# EAGLE library part DERFMEGA256-23T02 (library deRFmodules)
deRFmega256 IEEE 802.15.4 Low Power Wireless Radio Module Microcontroller: Atmel ATmega256RFR2 Transceiver: integrated Manufacturer: dresden elektronik ingenieurtechnik gmbh Website: http://www.dresden-elektronik.de
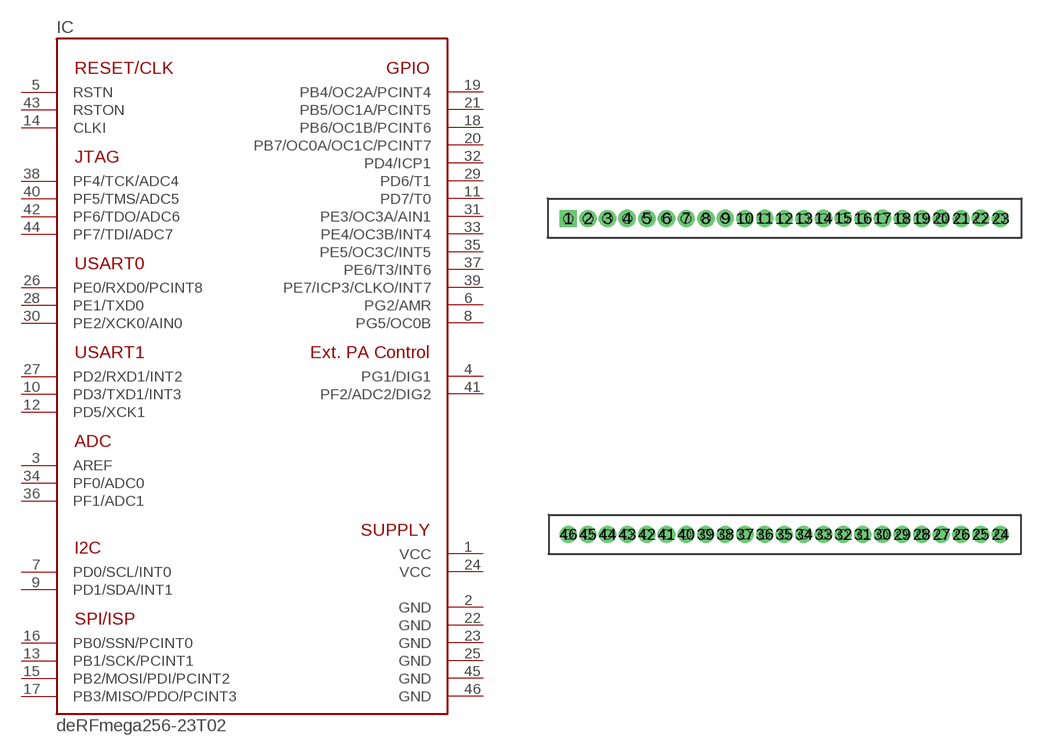
[diagram p15: symbol with the pads of A; footprint A]

Designator prefix IC

## DERFMEGA256-23T02  [A]
1  VCC  sup
2  GND  sup
3  AREF
4  PG1/DIG1
5  RSTN  in
6  PG2/AMR
7  PD0/SCL/INT0
8  PG5/OC0B
9  PD1/SDA/INT1
10  PD3/TXD1/INT3
11  PD7/T0
12  PD5/XCK1
13  PB1/SCK/PCINT1
14  CLKI  in
15  PB2/MOSI/PDI/PCINT2
16  PB0/SSN/PCINT0
17  PB3/MISO/PDO/PCINT3
18  PB6/OC1B/PCINT6
19  PB4/OC2A/PCINT4
20  PB7/OC0A/OC1C/PCINT7
21  PB5/OC1A/PCINT5
22  GND  sup
23  GND  sup
24  VCC  sup
25  GND  sup
26  PE0/RXD0/PCINT8
27  PD2/RXD1/INT2
28  PE1/TXD0
29  PD6/T1
30  PE2/XCK0/AIN0
31  PE3/OC3A/AIN1
32  PD4/ICP1
33  PE4/OC3B/INT4
34  PF0/ADC0
35  PE5/OC3C/INT5
36  PF1/ADC1
37  PE6/T3/INT6
38  PF4/TCK/ADC4
39  PE7/ICP3/CLKO/INT7
40  PF5/TMS/ADC5
41  PF2/ADC2/DIG2
42  PF6/TDO/ADC6
43  RSTON  out
44  PF7/TDI/ADC7
45  GND  sup
46  GND  sup

## Footprint A (pad centres in mm)
46pin THT package, pitch 1.27mm
drill 0.6 square: 1 -0.01,20.44
drill 0.6 pad 1.016: 2 1.28,20.45; 4 3.8,20.46
drill 0.599 pad 1.016: 3 2.54,20.45; 5 5.09,20.45; 6 6.35,20.45; 7 7.63,20.45; 8 8.91,20.45; 9 10.16,20.46; 10 11.43,20.45; 11 12.71,20.46; 12 13.97,20.45; 13 15.24,20.45; 14 16.51,20.46; 15 17.79,20.47; 16 19.06,20.45; 17 20.32,20.46; 18 21.6,20.45; 19 22.87,20.45; 20 24.12,20.46; 21 25.41,20.45; 22 26.66,20.47; 23 27.95,20.44; 24 27.94,0; 25 26.67,0; 26 25.4,0; 27 24.13,0; 28 22.86,0; 29 21.59,0; 30 20.32,0; 31 19.05,0; 32 17.78,0; 33 16.51,0; 34 15.24,0; 35 13.97,0; 36 12.7,0; 37 11.43,0; 38 10.16,0; 39 8.89,0; 40 7.62,0; 41 6.35,0; 42 5.08,0; 43 3.81,0; 44 2.54,0; 45 1.27,0; 46 0,0
hole 0.6 at 0,0
hole 0.6 at 1.27,0
hole 0.6 at 2.54,0
hole 0.6 at 2.54,0
hole 0.6 at 1.27,0
hole 0.6 at 3.81,0
hole 0.6 at 5.08,0
hole 0.6 at 6.35,0
hole 0.6 at 7.62,0
hole 0.6 at 6.35,0
hole 0.6 at 8.89,0
hole 0.6 at 10.16,0
hole 0.6 at 11.43,0
hole 0.6 at 12.7,0
hole 0.6 at 13.97,0
hole 0.6 at 15.24,0
hole 0.6 at 16.51,0
hole 0.6 at 17.78,0
hole 0.6 at 19.05,0
hole 0.6 at 20.32,0
hole 0.6 at 21.59,0
hole 0.6 at 22.86,0
hole 0.6 at 24.13,0
hole 0.6 at 25.4,0
hole 0.6 at 26.67,0
hole 0.6 at 27.94,0
hole 0.6 at 0,20.45
hole 0.6 at 1.27,20.45
hole 0.6 at 2.54,20.45
hole 0.6 at 3.81,20.45
hole 0.6 at 5.08,20.45
hole 0.6 at 6.35,20.45
hole 0.6 at 7.62,20.45
hole 0.6 at 8.89,20.45
hole 0.6 at 10.16,20.45
hole 0.6 at 11.43,20.45
hole 0.6 at 12.7,20.45
hole 0.6 at 13.97,20.45
hole 0.6 at 15.24,20.45
hole 0.6 at 16.51,20.45
hole 0.6 at 17.78,20.45
hole 0.6 at 19.05,20.45
hole 0.6 at 20.32,20.45
hole 0.6 at 21.59,20.45
hole 0.6 at 22.86,20.45
hole 0.6 at 24.13,20.45
hole 0.6 at 25.4,20.45
hole 0.6 at 26.67,20.45
hole 0.6 at 27.94,20.45